# EAGLE library part TA8428K(O,S) (library TA8428K(O_S))
Moter Driver,Full Brdg Driver,HSIP7 TA8428K(O,S), Motor Driver, Full Bridge Motor, Maximum of 30 V, 7-Pin SIP Source: Datasheet <https://toshiba.semicon-storage.com/info/docget.jsp?did=8558&prodName=TA8428K>
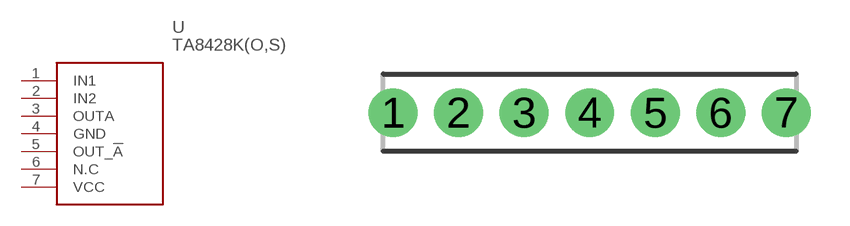
[diagram p0: symbol with the pads of HSIP7-P-2.54_1; footprint HSIP7-P-2.54_1]

Designator prefix U

## TA8428K(O,S) (Description: Moter Driver,Full Brdg Driver,HSIP7 TA8428K(O,S), Motor Driver, Full Bridge Motor, Maximum of 30 V, 7-Pin SIP; Height: mm; Manufacturer_Name: Toshiba; Manufacturer_Part_Number: TA8428K(O,S); Mouser_Part_Number: 757-TA8428KOS; Mouser_Price-Stock: https://www.mouser.com/Search/Refine.aspx?Keyword=757-TA8428KOS; RS_Part_Number: 6939336; RS_Price-Stock: http://uk.rs-online.com/web/p/products/6939336)  [HSIP7-P-2.54_1]
1  IN1
2  IN2
3  OUTA
4  GND
5  OUT_!A
6  N.C  nc
7  VCC

## Footprint HSIP7-P-2.54_1 (pad centres in mm)
HSIP7−P−2.54
drill 1.26 pad 1.86: 1 -7.62,0; 2 -5.08,0; 3 -2.54,0; 4 0,0; 5 2.54,0; 6 5.08,0; 7 7.62,0